# Altium footprint library WLCSP-8.PcbLib: 1 footprints
Each footprint in its own frame and in the unit in brackets; x right, y up, seen from the top. Pads: shape width x height; smd on the part's side, far side on the other; paste and mask are expansions set on the pad; w line width, h text height; cw(c..) or ccw(c..) is an arc to the next point about the centre after c.
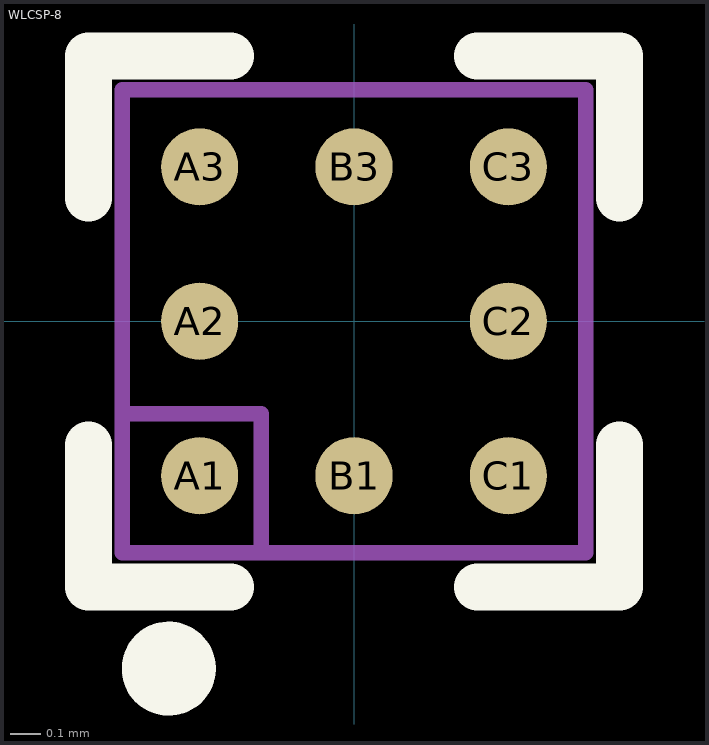
[diagram p0: the footprint, top view; thin cyan lines are the x and y axes]

## WLCSP-8 [mm]
pads (8):
  round 0.25 smd mask+0.051: A1(-0.5,-0.5) A2(-0.5,0) A3(-0.5,0.5) B1(0,-0.5) B3(0,0.5) C1(0.5,-0.5) C2(0.5,0) C3(0.5,0.5)
Top Overlay:
  circle w0.152: c-0.6,-1.125 r0.076
  lines w0.152: -0.86,-0.4 -0.86,-0.86 -0.4,-0.86 ; -0.86,0.4 -0.86,0.86 -0.4,0.86 ; 0.4,-0.86 0.86,-0.86 0.86,-0.4 ; 0.4,0.86 0.86,0.86 0.86,0.4
Mechanical 13:
  lines w0.05: -0.75,-0.3 -0.3,-0.3 -0.3,-0.75 ; -0.75,-0.75 0.75,-0.75 0.75,0.75 -0.75,0.75 -0.75,-0.75